# Altium footprint library TO.PcbLib: 2 footprints
Each footprint in its own frame and in the unit in brackets; x right, y up, seen from the top. Pads: shape width x height; smd on the part's side, far side on the other; paste and mask are expansions set on the pad; w line width, h text height; cw(c..) or ccw(c..) is an arc to the next point about the centre after c.
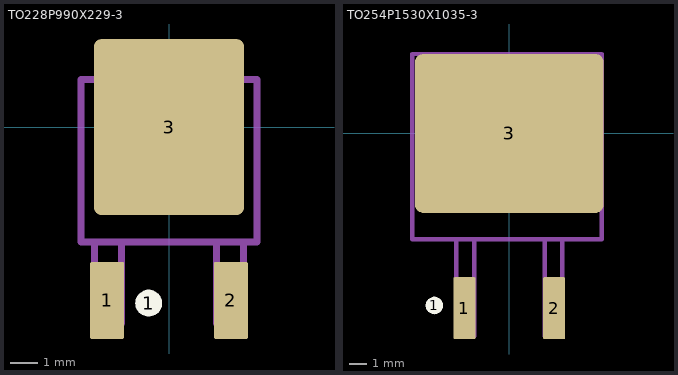
[diagram p0: the footprints below, top view; thin cyan lines are the x and y axes]

## TO228P990X229-3 [mm] "DPAK3"
pads (4):
  rrect10% 1.25x2.85 smd: 1(-2.286,-6.4) 2(2.286,-6.4)
  round 1 on Top Overlay: 1(-0.75,-6.5)
  rrect10% 5.55x6.5 smd: 3(0,0)
Top Assembly:
  lines w0.254: -2.75,-4.25 -2.75,-7.25 -1.75,-7.25 -1.75,-4.25 ; 1.75,-4.25 1.75,-7.25 2.75,-7.25 2.75,-4.25 ; -3.25,-4.25 -3.25,1.75 3.25,1.75 3.25,-4.25 -3.25,-4.25
3D body "TO228P990X229-3.stp": height 2.29, standoff 0, extent -3.27,-7.278 3.27,2.83

## TO254P1530X1035-3 [mm] "D2PAK3"
pads (4):
  round 1 on Top Overlay: 1(-4.25,-9.75)
  rrect10% 1.25x3.5 smd: 1(-2.54,-9.9) 2(2.54,-9.9)
  rrect10% 10.7x9 smd: 3(0,0)
Top Assembly:
  lines w0.254: -3,-6 -3,-11.5 -2,-11.5 -2,-6 ; 2,-6 2,-11.5 3,-11.5 3,-6 ; -5.5,-6 5.25,-6 5.25,4.5 -5.5,4.5 -5.5,-6
3D body "TO254P1530X1035-3.stp": height 4.46, standoff 0, extent -5.175,-11.182 5.175,4.155